# Altium footprint library Capacitors.PcbLib: 18 footprints (part 1 of 2)
Each footprint in its own frame and in the unit in brackets; x right, y up, seen from the top. Pads: shape width x height; smd on the part's side, far side on the other; paste and mask are expansions set on the pad; w line width, h text height; cw(c..) or ccw(c..) is an arc to the next point about the centre after c.
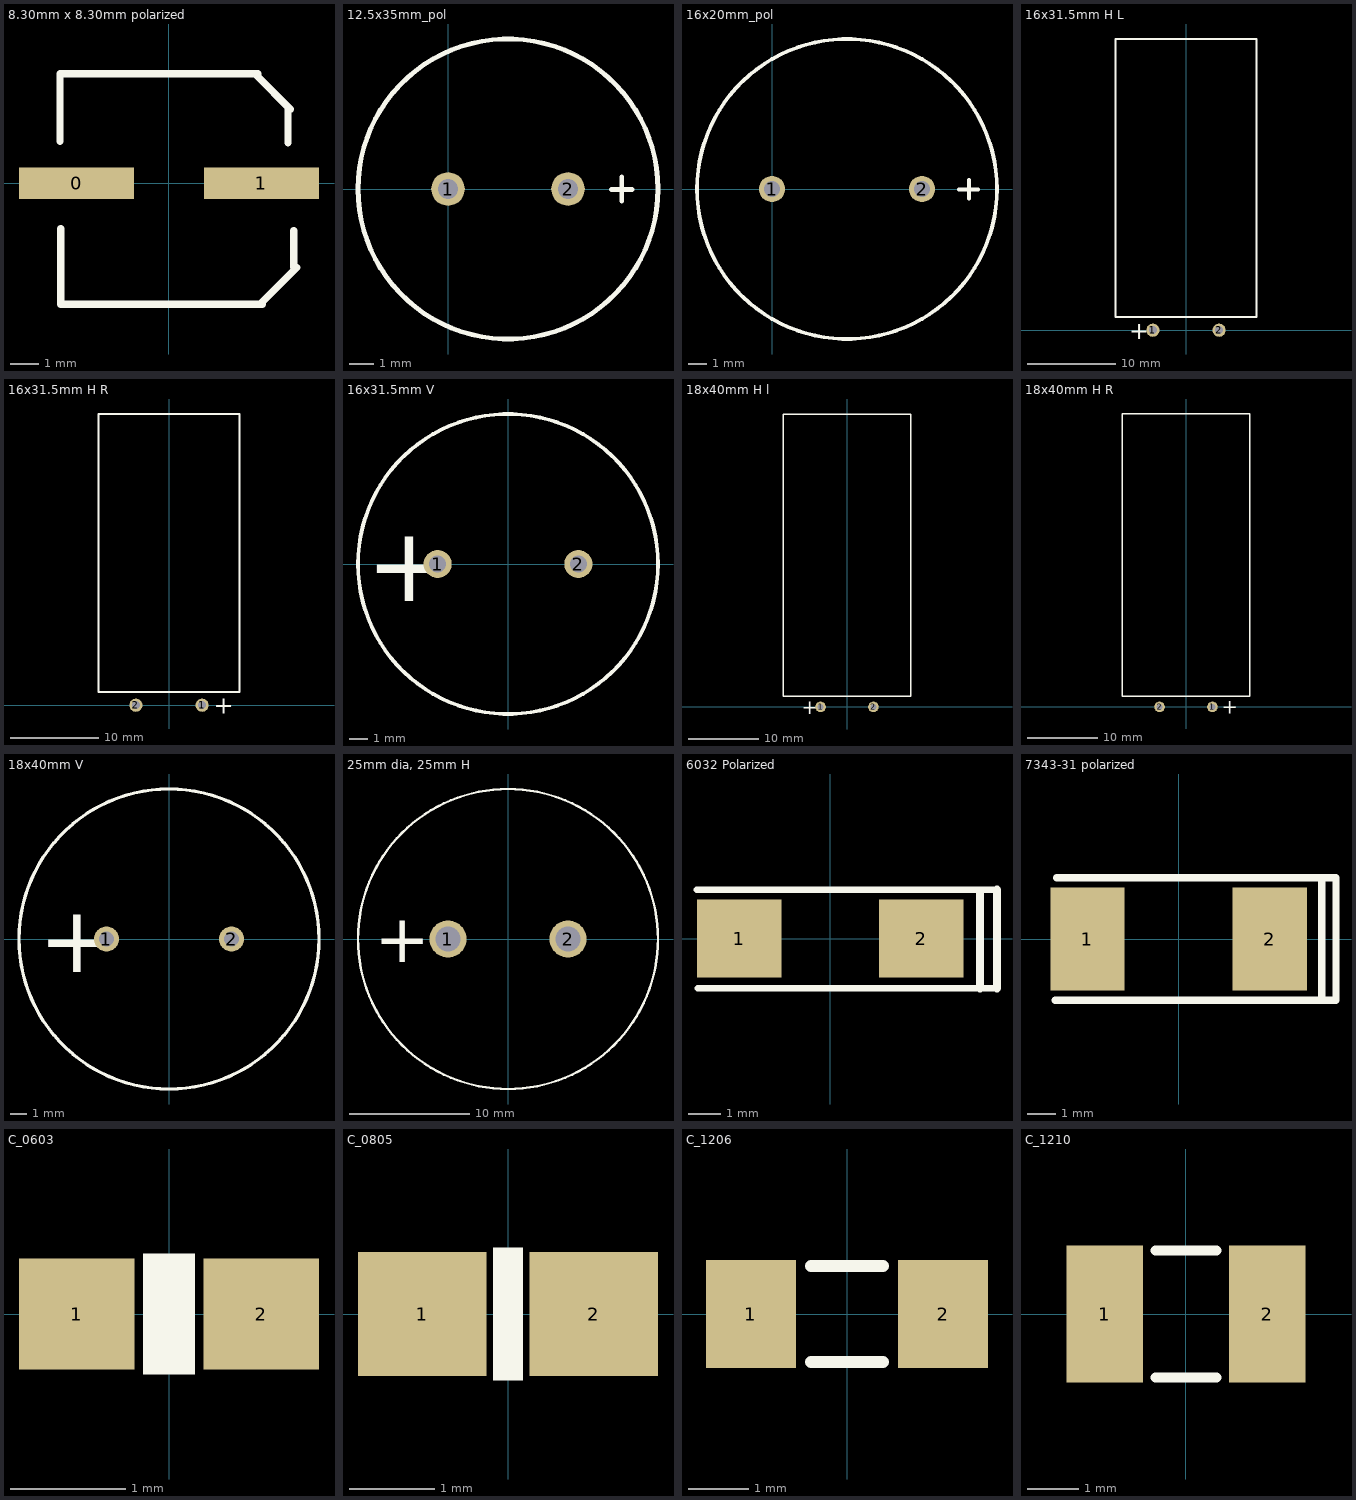
[diagram p0: the footprints below, top view; thin cyan lines are the x and y axes]

## 8.30mm x 8.30mm polarized [mm]
pads (2):
  rect 4x1.1 smd: 0(-3.2,0) 1(3.225,0)
Top Overlay:
  lines w0.254: -3.775,1.45 -3.775,3.8 3.1,3.8 ; -3.75,-4.2 3.25,-4.2 ; -3.75,-4.15 -3.75,-1.575 ; 3.05,3.75 4.225,2.575 ; 3.25,-4.125 4.45,-2.925 ; 4.15,1.4 4.15,2.55 ; 4.35,-2.925 4.35,-1.65
3D body "CAPAE-D8.0x6.2.stp": height 6.5, standoff 0, extent -4.575,-4.175 4.925,4.125

## 12.5x35mm_pol [mm]
pads (2):
  round 1.4 hole 0.85: 1(0,0) 2(5,0)
Top Overlay:
  circle w0.2: c2.5,0 r6.25
  lines w0.2: 6.8,-0.025 7.675,-0.025 ; 7.24,-0.508 7.24,0.508

## 16x20mm_pol [mm]
height 20
pads (2):
  round 1.4 hole 0.85: 1(0,0) 2(8,0)
Top Overlay:
  circle w0.2: c4,0 r8
  lines w0.2: 9.967,-0.025 10.983,-0.025 ; 10.5,-0.516 10.5,0.5

## 16x31.5mm H L [mm] "16mm x 31.5mm, horizontal orientation, left bend, leaded capacitor"
height 16
pads (2):
  round 1.5 hole 0.9 mask+0.064: 1(-3.75,0) 2(3.75,0)
Top Overlay:
  lines w0.2: -8,1.5 8,1.5 8,33 -8,33 -8,1.5
  text "+" at -6.425,-1 h2
3D body "16x31,5mm horizontal L.stp": height 16.1, standoff -4.1, extent -8,-0.4 8,32.999

## 16x31.5mm H R [mm] "16mm x 31.5mm, horizontal orientation, right bend, leaded capacitor"
height 16
pads (2):
  round 1.5 hole 0.9 mask+0.064: 1(3.75,0) 2(-3.75,0)
Top Overlay:
  lines w0.2: -8,1.5 8,1.5 8,33 -8,33 -8,1.5
  text "+" at 5.05,-1 h2
3D body "16x31,5mm horizontal R.stp": height 16.1, standoff -4.1, extent -8,-0.4 8,32.999

## 16x31.5mm V [mm] "16mm x 31.5 mm, vertical, leaded capacitor"
height 31.5
pads (2):
  round 1.5 hole 0.9 mask+0.064: 1(-3.75,0) 2(3.75,0)
Top Overlay:
  circle w0.2: c0,0 r8
  text "+" at -7.55,-1.975 h4
3D body "16x31,5mm vertical.stp": height 31.55, standoff -3.15, extent -8,-8 8,8

## 18x40mm H l [mm] "18mm x 40mm, horizontal orientation, left bend, leaded capacitor"
height 18
pads (2):
  round 1.5 hole 0.9 mask+0.064: 1(-3.75,0) 2(3.75,0)
Top Overlay:
  lines w0.2: -9,1.5 9,1.5 9,41.5 -9,41.5 -9,1.5
  text "+" at -6.425,-1 h2
3D body "18x40mm horizontal L.stp": height 18.1, standoff -3.1, extent -8.997,-0.4 8.897,41.499

## 18x40mm H R [mm] "18mm x 40mm, horizontal orientation, right bend, leaded capacitor"
height 18
pads (2):
  round 1.5 hole 0.9 mask+0.064: 1(3.75,0) 2(-3.75,0)
Top Overlay:
  lines w0.2: -9,1.5 -9,41.5 9,41.5 9,1.5 -9,1.5
  text "+" at 5.05,-1 h2
3D body "18x40mm horizontal.stp": height 18.1, standoff -3.1, extent -8.997,-0.4 8.897,41.499

## 18x40mm V [mm] "18mm x 40 mm, vertical, leaded capacitor"
pads (2):
  round 1.5 hole 0.9 mask+0.064: 1(-3.75,0) 2(3.75,0)
Top Overlay:
  circle w0.2: c0,0 r9
  text "+" at -7.825,-2 h4
3D body "18x40mm vertical.stp": height 40.1, standoff -3.1, extent -8.872,-9 9.022,9

## 25mm dia, 25mm H [mm] "25mm x  25mm, vertical, leaded capacitor"
height 25
pads (2):
  round 3.1 hole 2.1 mask+0.064: 1(-5,0) 2(5,0)
Top Overlay:
  circle w0.2: c0,0 r12.5
  text "+" at -11.125,-1.95 h4
3D body "User Library-CE_R530_D1000_H1750.step": height 42.2, standoff -2.5, extent -12.7,-12.7 12.7,12.7

## 6032 Polarized [mm] "tantalum footprint, positive marked"
pads (2):
  rect 2.6x2.4 smd: 1(-2.8,0) 2(2.8,0)
Top Overlay:
  lines w0.2: -4.1,1.5 5.125,1.5 ; -4.075,-1.525 5.125,-1.525
  lines w0.254: 4.6,-1.525 4.6,1.425 ; 5.125,-1.525 5.125,1.5

## 7343-31 polarized [mm] "tantalum footprint, positive marked"
pads (2):
  rect 2.6x3.6 smd: 1(-3.2,0) 2(3.2,0)
Top Overlay:
  lines w0.254: -4.325,-2.15 5.525,-2.15 5.525,2.15 5.5,2.15 ; -4.275,2.15 5.5,2.15 ; 5.025,-2.1 5.025,2.125 ; 5.5,2.15 5.5,2.15

## C_0603 [mm] "0603 Style B SMT capacitor"
height 0.96
pads (2):
  rect 1x0.96 smd mask+0.064: 1(-0.8,0) 2(0.8,0)
Top Overlay:
  rectangle: -0.225,-0.525 0.225,0.525
3D body "0603 capacitor.stp": height 0.8, standoff -0.01, extent -0.8,-0.405 0.8,0.405

## C_0805 [mm] "0805 Style B SMT capacitor"
height 1.35
pads (2):
  rect 1.5x1.45 smd mask+0.064: 1(-1,0) 2(1,0)
Top Overlay:
  rectangle: -0.175,-0.775 0.175,0.775
3D body "0805 capacitor.stp": height 1.25, standoff 0, extent -1,-0.625 1.01,0.625

## C_1206 [mm] "1206 SMT capacitor"
height 1.8
pads (2):
  rect 1.5x1.8 smd mask+0.064: 1(-1.6,0) 2(1.6,0)
Top Overlay:
  lines w0.2: -0.6,-0.8 0.6,-0.8 ; -0.6,0.8 0.6,0.8
3D body "1206 capacitor.stp": height 1.59, standoff -0.01, extent -1.6,-0.8 1.6,0.8

## C_1210 [mm] "1210 SMT capacitor"
height 2.7
pads (2):
  rect 1.5x2.7 smd mask+0.064: 1(-1.6,0) 2(1.6,0)
Top Overlay:
  lines w0.2: -0.6,-1.25 0.6,-1.25 ; -0.6,1.25 0.6,1.25
3D body "1210 capacitor.stp": height 2.5, standoff 0, extent -1.6,-1.25 1.6,1.25